# EAGLE library part M80-54008 (library BrownSpaceEngineering)
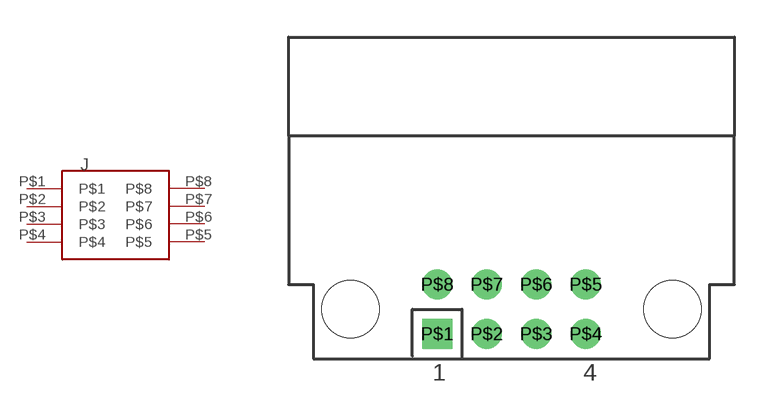
[diagram p22: symbol with the pads of M80-54008; footprint M80-54008]

Designator prefix J

## M80-54008  [M80-54008]
P$1  P$1
P$2  P$2
P$3  P$3
P$4  P$4
P$5  P$5
P$6  P$6
P$7  P$7
P$8  P$8

## Footprint M80-54008 (pad centres in mm)
drill 0.7 square: P$1 0,0
drill 0.7: P$2 2,0; P$3 4,0; P$4 6,0; P$5 6,2; P$6 4,2; P$7 2,2; P$8 0,2
hole 2.3 at -3.5,1
hole 2.3 at 9.5,1